# Altium schematic symbol library TouchScreen.SchLib: 2 symbols
Pins are listed as number, name and electrical type; pins without a type are passive.

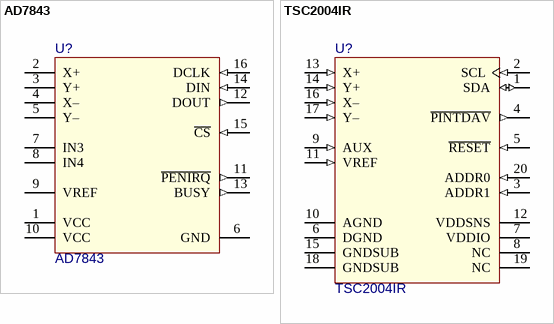
[diagram p0: symbols AD7843 to TSC2004IR]

## AD7843
designator U?
12-bit ADC with a 4-wire touch interface, 125 kSPS throughput, low power, 2.2V-5.25V supply, and ratiometric conversion; ComponentLink2URL: http://www.mct.net/download/ad/ad7843.pdf; Value: AD7843
footprint TSOP65P640-16AN (TSOP, 16-Leads, Body 5x4.4mm, Pitch 0.65mm, IPC Medium Density)
pins: 1 VCC (power), 2 X+, 3 Y+, 4 X–, 5 Y–, 6 GND (power), 7 IN3, 8 IN4, 9 VREF (power), 10 VCC (power), 11 ~{PENIRQ} (out), 12 DOUT (out), 13 BUSY (out), 14 DIN (in), 15 ~{CS} (in), 16 DCLK (in)

## TSC2004IR
designator U?
4-Wire Resistive Touch Screen Controller; Published: 6-Oct-2005; DatasheetVersion: Jan-2005; PackageVersion: Feb-1999; PackageReference: PW016; Publisher: Altium Limited; PackageDescription: Shrink Small Outline; 16 Leads; Body Width 4.4 mm; Pitch 0.65 mm; ComponentLink1Description: Manufacturer Link; ComponentLink1URL: http://focus.ti.com/docs/prod/folders/print/tsc2003.html; ComponentLink2Description: Datasheet; ComponentLink2URL: http://focus.ti.com/lit/ds/symlink/tcs2003.pdf
footprint WQFN-20 (RTJ0020D) (Footprint not found)
pins: 1 SDA (io), 2 SCL (in), 3 ADDR1 (in), 4 ~{PINTDAV} (out), 5 ~{RESET} (in), 6 DGND (power), 7 VDDIO (power), 8 NC (power), 9 AUX (in), 10 AGND (power), 11 VREF (in), 12 VDDSNS (power), 13 X+ (in), 14 Y+ (in), 15 GNDSUB (power), 16 X– (in), 17 Y– (in), 18 GNDSUB (power), 19 NC (power), 20 ADDR0 (in)